# Altium footprint library EEUFC0J101.PcbLib: 1 footprints
Each footprint in its own frame and in the unit in brackets; x right, y up, seen from the top. Pads: shape width x height; smd on the part's side, far side on the other; paste and mask are expansions set on the pad; w line width, h text height; cw(c..) or ccw(c..) is an arc to the next point about the centre after c.
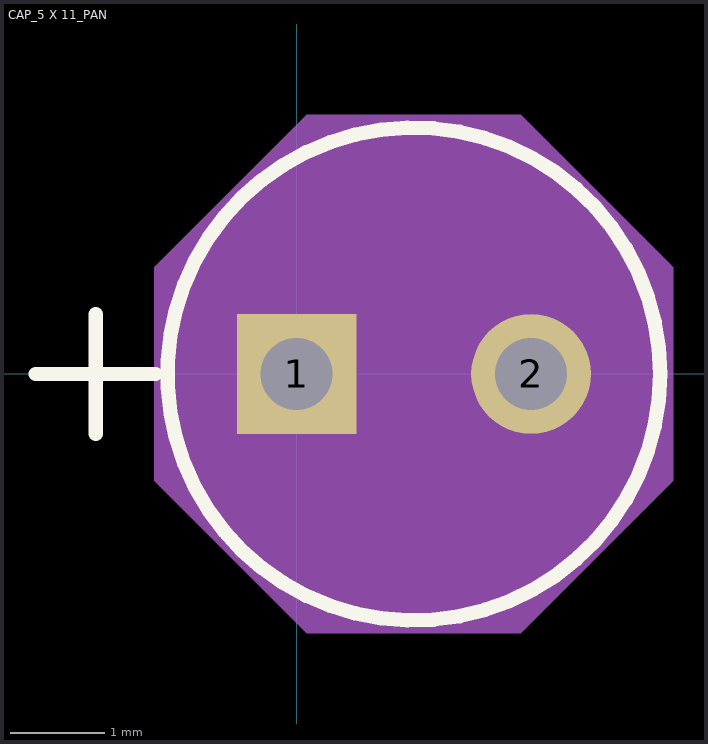
[diagram p0: the footprint, top view; thin cyan lines are the x and y axes]

## CAP_5 X 11_PAN [mil]
pads (2):
  rect 50x50 / inner round 60 / far side rect 50x50 hole 30 paste-25 mask+0: 1(0,0)
  round 50 / inner round 60 / far side round 50 hole 30 paste-25 mask+0: 2(98,0)
Top Overlay:
  circle w6: c49,0 r103
  lines w6: -109,0 -59,0 ; -84,-25 -84,25
Mechanical 13:
  circle w0: c49,0 r98
  lines w1: -109,0 -59,0 ; -84,-25 -84,25
Mechanical 15:
  region: -59,44.47 4.53,108 93.47,108 157,44.47 157,-44.47 93.47,-108 4.53,-108 -59,-44.47
  lines w1: -59,-44.47 4.53,-108 93.47,-108 157,-44.47 157,44.47 93.47,108 4.53,108 -59,44.47 -59,-44.47
3D body "CAP_5X11_PAN.step": height 433.62, standoff -160, extent -49.02,-98 148.2,98